# EAGLE library part LM1815 (library lm1815)
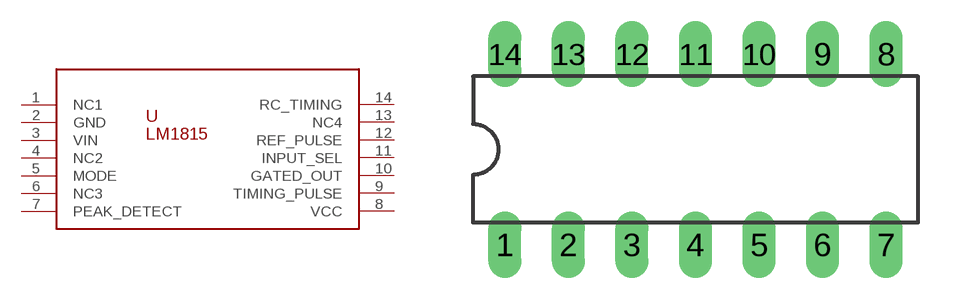
[diagram p0: symbol with the pads of DIL14; footprint DIL14]

Designator prefix -

## LM1815  [DIL14]
1  NC1
2  GND
3  VIN
4  NC2
5  MODE
6  NC3
7  PEAK_DETECT
8  VCC
9  TIMING_PULSE
10  GATED_OUT
11  INPUT_SEL
12  REF_PULSE
13  NC4
14  RC_TIMING

## Footprint DIL14 (pad centres in mm)
drill 0.813 long: 1 -7.62,-3.81; 2 -5.08,-3.81; 3 -2.54,-3.81; 4 0,-3.81; 5 2.54,-3.81; 6 5.08,-3.81; 7 7.62,-3.81; 8 7.62,3.81; 9 5.08,3.81; 10 2.54,3.81; 11 0,3.81; 12 -2.54,3.81; 13 -5.08,3.81; 14 -7.62,3.81